# EAGLE library part LM358 (library SparkFun-AnalogIC)
Jellybean op-amp
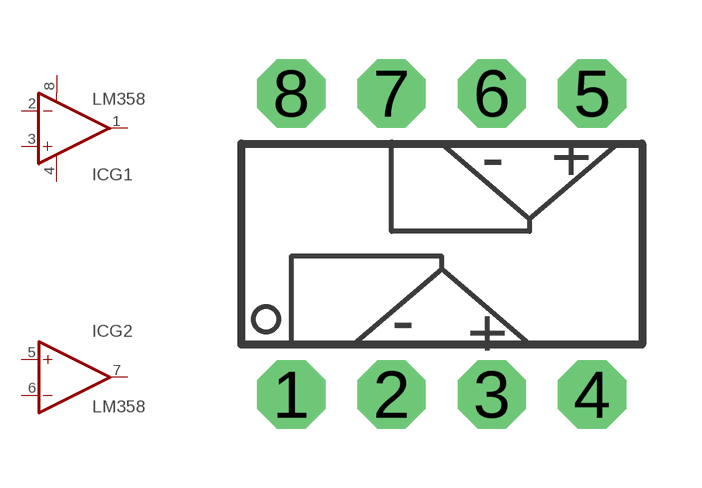
[diagram p11: symbol with the pads of LM358_DIP08; footprint LM358_DIP08]

Designator prefix IC; gates G1=OP-AMP+- G2=OP-AMP

## LM358  [LM358_DIP08]
1  G1:OUT  out
2  G1:-IN  in
3  G1:+IN  in
4  G1:V-  pwr
5  G2:+IN  in
6  G2:-IN  in
7  G2:OUT  out
8  G1:V+  pwr

## Footprint LM358_DIP08 (pad centres in mm)
drill 0.813 pad 1.727 octagon: 1 1.905,0; 2 4.445,0; 3 6.985,0; 4 9.525,0; 5 9.525,7.62; 6 6.985,7.62; 7 4.445,7.62; 8 1.905,7.62